# Altium integrated library Holtek Semiconductor 8-Bit OTP MCU.IntLib: 195 symbols (part 3 of 7)
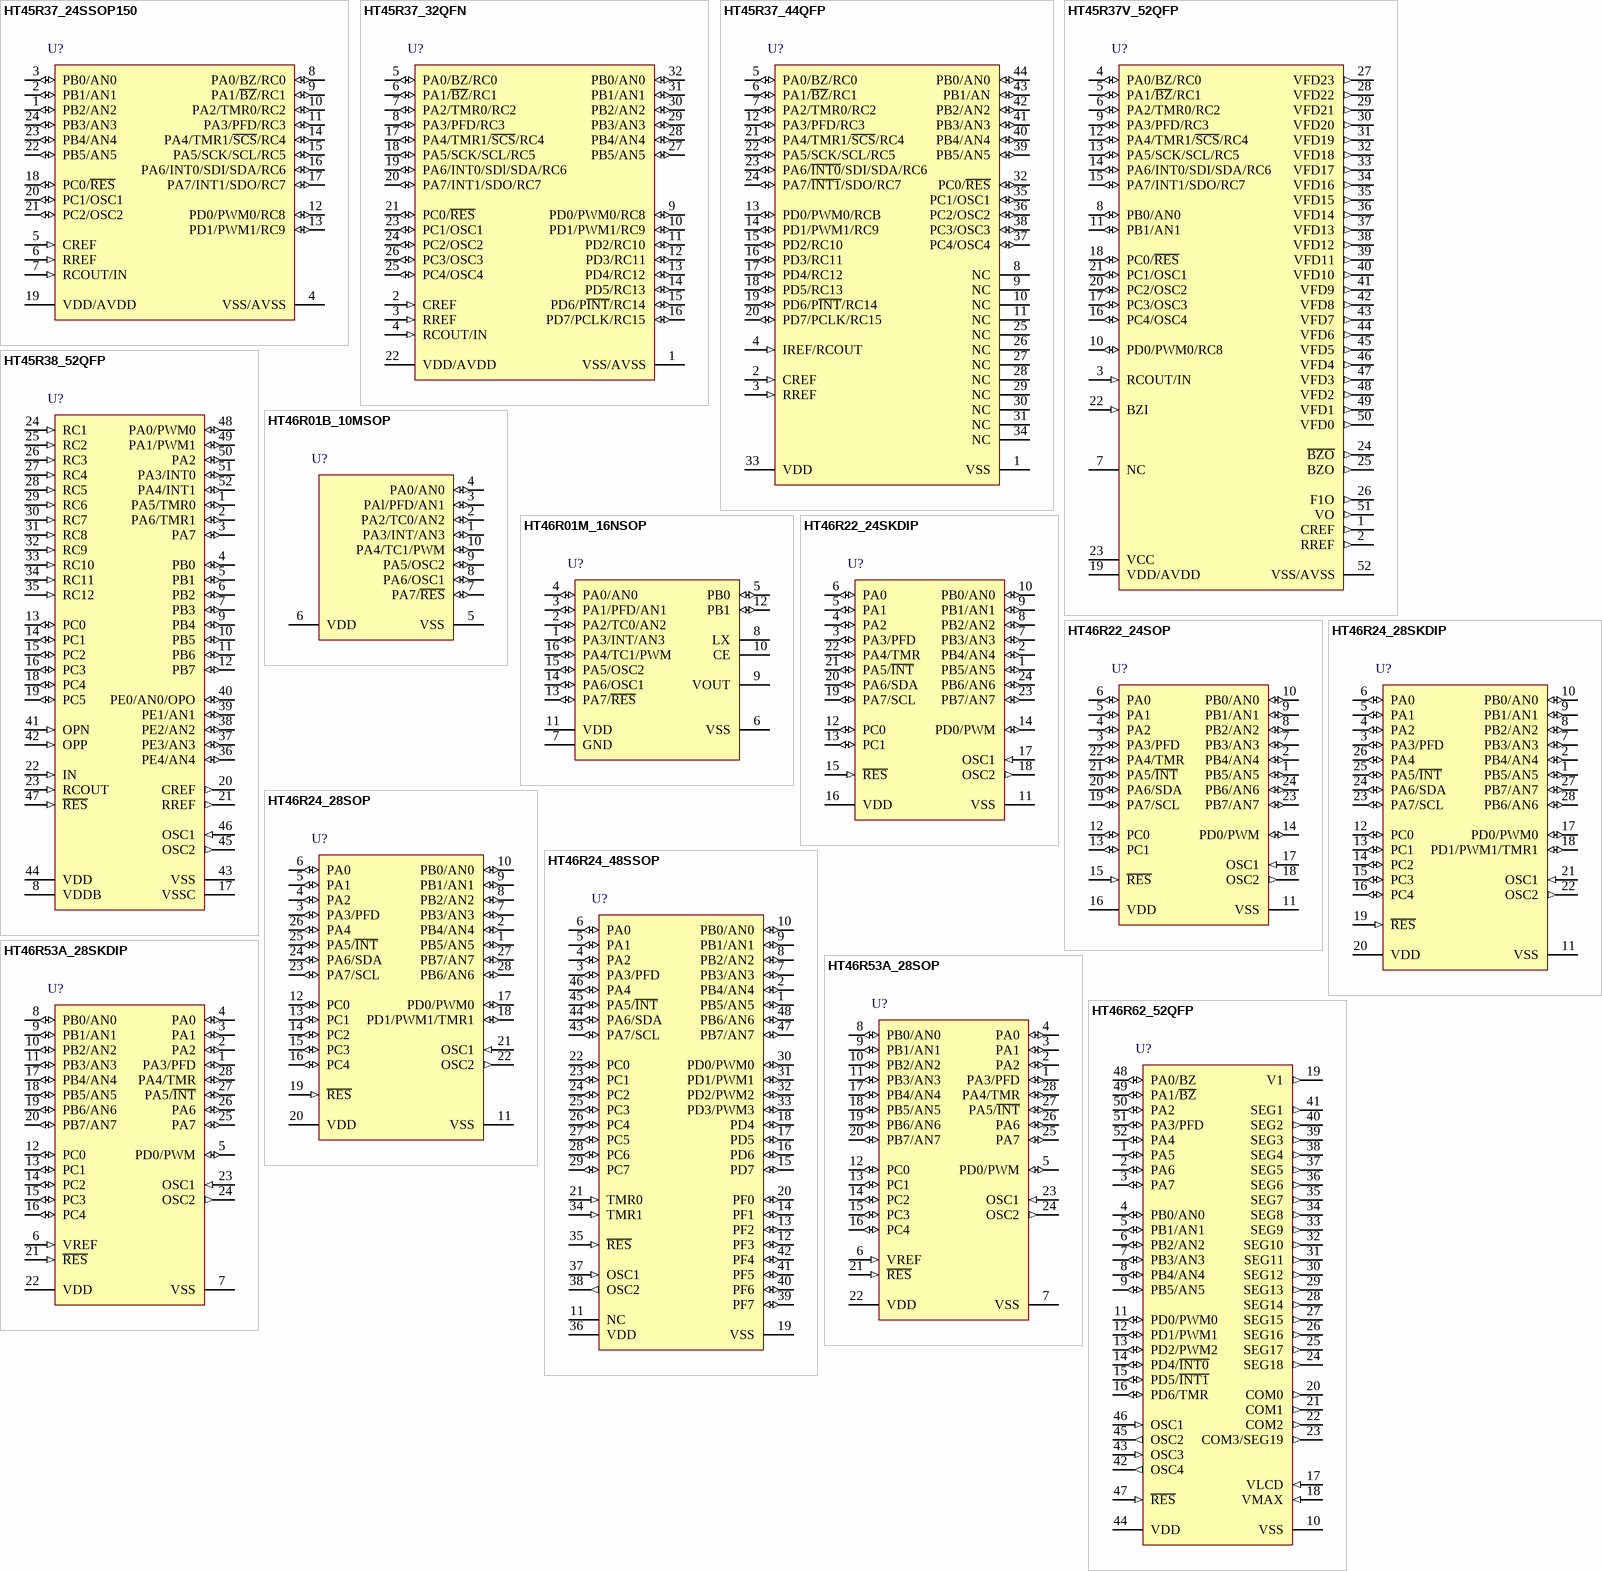
[diagram p14: symbols HT45R37_24SSOP150 to HT46R62_52QFP]

## HT46R24_28SKDIP
designator U?
General Purpose MCU, A/D Type MCU with I2C Interface, 2.2V-5.5V, 400kHz-8MHz, 8Kx16 Program Memory, 384x8 Data Memory, 40 I/O, 2 x 16-bit Timer, 8-bitx4 PWM, 28-pin SKDIP; I/O: 40; DatasheetVersion: rev2.01, Jan-2009; PackageVersion: 25/05/2010; PackageReference: 28SKDIP; PackageDescription: 28-Pin, Skinny Dual In-line Package, 300mil Width, Pitch 2.54 mm; Series: A/D Type MCU with I2C Interface; Operating Voltage: 2.2V-5.5V; Program Memory: 8Kx16; Data Memory: 384x8; ComponentLink1Description: Manufacturer URL; ComponentLink1URL: http://www.holtek.com/; ComponentLink2Description: Datasheet; ComponentLink2URL: http://www.holtek.com.cn/pdf/uc/sim46x24v201.pdf; ComponentLink3Description: Package Specification; ComponentLink3URL: http://www.holtek.com/english/literature/package.pdf
footprint 28SKDIP (DIP, 28-Leads, Row Spacing 7.62mm, Pitch 2.54mm, Body 35.2x7.3mm)
pins: 1 PB5/AN5 (io), 2 PB4/AN4 (io), 3 PA3/PFD (io), 4 PA2 (io), 5 PA1 (io), 6 PA0 (io), 7 PB3/AN3 (io), 8 PB2/AN2 (io), 9 PB1/AN1 (io), 10 PB0/AN0 (io), 11 VSS (power), 12 PC0 (io), 13 PC1 (io), 14 PC2 (io), 15 PC3 (io), 16 PC4 (io), 17 PD0/PWM0 (io), 18 PD1/PWM1/TMR1 (io), 19 ~{RES} (in), 20 VDD (power), 21 OSC1 (in), 22 OSC2 (out), 23 PA7/SCL (io), 24 PA6/SDA (io), 25 PA5/~{INT} (io), 26 PA4 (io), 27 PB7/AN7 (io), 28 PB6/AN6 (io)

## HT46R24_28SOP
designator U?
General Purpose MCU, A/D Type MCU with I2C Interface, 2.2V-5.5V, 400kHz-8MHz, 8Kx16 Program Memory, 384x8 Data Memory, 40 I/O, 2 x 16-bit Timer, 8-bitx4 PWM, 28-pin SOP; I/O: 40; DatasheetVersion: rev2.01, Jan-2009; PackageVersion: 25/05/2010; PackageReference: 28SOP; PackageDescription: 28-Pin Small Outline Package, 300mil Wide, 1.27 mm Pitch; Series: A/D Type MCU with I2C Interface; Operating Voltage: 2.2V-5.5V; Program Memory: 8Kx16; Data Memory: 384x8; Code_JEDEC: MS-013; ComponentLink1Description: Manufacturer URL; ComponentLink1URL: http://www.holtek.com/; ComponentLink2Description: Datasheet; ComponentLink2URL: http://www.holtek.com.cn/pdf/uc/sim46x24v201.pdf; ComponentLink3Description: Package Specification; ComponentLink3URL: http://www.holtek.com/english/literature/package.pdf
footprint 28SOP_N (SOIC, 28-Leads, Body 17.9x7.1mm, Pitch 1.27mm, IPC Medium Density)
footprint 28SOP_L (SOIC, 28-Leads, Body 17.9x7.1mm, Pitch 1.27mm, IPC High Density)
footprint 28SOP_M (SOIC, 28-Leads, Body 17.9x7.1mm, Pitch 1.27mm, IPC Low Density)
pins: 1 PB5/AN5 (io), 2 PB4/AN4 (io), 3 PA3/PFD (io), 4 PA2 (io), 5 PA1 (io), 6 PA0 (io), 7 PB3/AN3 (io), 8 PB2/AN2 (io), 9 PB1/AN1 (io), 10 PB0/AN0 (io), 11 VSS (power), 12 PC0 (io), 13 PC1 (io), 14 PC2 (io), 15 PC3 (io), 16 PC4 (io), 17 PD0/PWM0 (io), 18 PD1/PWM1/TMR1 (io), 19 ~{RES} (in), 20 VDD (power), 21 OSC1 (in), 22 OSC2 (out), 23 PA7/SCL (io), 24 PA6/SDA (io), 25 PA5/~{INT} (io), 26 PA4 (io), 27 PB7/AN7 (io), 28 PB6/AN6 (io)

## HT46R24_48SSOP
designator U?
General Purpose MCU, A/D Type MCU with I2C Interface, 2.2V-5.5V, 400kHz-8MHz, 8Kx16 Program Memory, 384x8 Data Memory, 40 I/O, 2 x 16-bit Timer, 8-bitx4 PWM, 48-pin SSOP; I/O: 40; DatasheetVersion: rev2.01, Jan-2009; PackageVersion: 25/05/2010; PackageReference: 48SSOP; PackageDescription: 48-Pin Shrink Small Outline Package, 300mil Width, 0.64 mm Pitch; Series: A/D Type MCU with I2C Interface; Operating Voltage: 2.2V-5.5V; Program Memory: 8Kx16; Data Memory: 384x8; Code_IPC: SOP635P1035-48; ComponentLink1Description: Manufacturer URL; ComponentLink1URL: http://www.holtek.com/; ComponentLink2Description: Datasheet; ComponentLink2URL: http://www.holtek.com.cn/pdf/uc/sim46x24v201.pdf; ComponentLink3Description: Package Specification; ComponentLink3URL: http://www.holtek.com/english/literature/package.pdf
footprint 48SSOP_N (SOP, 48-Leads, Body 15.9x7.5mm, Pitch 0.635mm, IPC Medium Density)
footprint 48SSOP_L (SOP, 48-Leads, Body 15.9x7.5mm, Pitch 0.635mm, IPC High Density)
footprint 48SSOP_M (SOP, 48-Leads, Body 15.9x7.5mm, Pitch 0.635mm, IPC Low Density)
pins: 1 PB5/AN5 (io), 2 PB4/AN4 (io), 3 PA3/PFD (io), 4 PA2 (io), 5 PA1 (io), 6 PA0 (io), 7 PB3/AN3 (io), 8 PB2/AN2 (io), 9 PB1/AN1 (io), 10 PB0/AN0 (io), 11 NC, 12 PF3 (io), 13 PF2 (io), 14 PF1 (io), 15 PD7 (io), 16 PD6 (io), 17 PD5 (io), 18 PD4 (io), 19 VSS (power), 20 PF0 (io), 21 TMR0 (in), 22 PC0 (io), 23 PC1 (io), 24 PC2 (io), 25 PC3 (io), 26 PC4 (io), 27 PC5 (io), 28 PC6 (io), 29 PC7 (io), 30 PD0/PWM0 (io), 31 PD1/PWM1 (io), 32 PD2/PWM2 (io), 33 PD3/PWM3 (io), 34 TMR1 (in), 35 ~{RES} (in), 36 VDD (power), 37 OSC1 (in), 38 OSC2 (out), 39 PF7 (io), 40 PF6 (io), 41 PF5 (io), 42 PF4 (io), 43 PA7/SCL (io), 44 PA6/SDA (io), 45 PA5/~{INT} (io), 46 PA4 (io), 47 PB7/AN7 (io), 48 PB6/AN6 (io)

## HT46R53A_28SKDIP
designator U?
General Purpose MCU, A/D Type MCU, 2.2V-5.5V, 400kHz-8MHz, 2Kx15 Program Memory, 192x8 Data Memory, 22 I/O, 1 x 8-bit Timer, 12-bitx8 A/D, 8-bitx1 PWM, 28-pin SKDIP; I/O: 22; DatasheetVersion: rev1.1, Mar-2009; PackageVersion: 25/05/2010; PackageReference: 28SKDIP; PackageDescription: 28-Pin, Skinny Dual In-line Package, 300mil Width, Pitch 2.54 mm; Series: A/D Type MCU; Operating Voltage: 2.2V-5.5V; Program Memory: 2Kx15; Data Memory: 192x8; ComponentLink1Description: Manufacturer URL; ComponentLink1URL: http://www.holtek.com/; ComponentLink2Description: Datasheet; ComponentLink2URL: http://www.holtek.com.cn/pdf/uc/sim46x53_54av110.pdf; ComponentLink3Description: Package Specification; ComponentLink3URL: http://www.holtek.com/english/literature/package.pdf
footprint 28SKDIP (DIP, 28-Leads, Row Spacing 7.62mm, Pitch 2.54mm, Body 35.2x7.3mm)
pins: 1 PA3/PFD (io), 2 PA2 (io), 3 PA1 (io), 4 PA0 (io), 5 PD0/PWM (io), 6 VREF (in), 7 VSS (power), 8 PB0/AN0 (io), 9 PB1/AN1 (io), 10 PB2/AN2 (io), 11 PB3/AN3 (io), 12 PC0 (io), 13 PC1 (io), 14 PC2 (io), 15 PC3 (io), 16 PC4 (io), 17 PB4/AN4 (io), 18 PB5/AN5 (io), 19 PB6/AN6 (io), 20 PB7/AN7 (io), 21 ~{RES} (in), 22 VDD (power), 23 OSC1 (in), 24 OSC2 (out), 25 PA7 (io), 26 PA6 (io), 27 PA5/~{INT} (io), 28 PA4/TMR (io)

## HT46R53A_28SOP
designator U?
General Purpose MCU, A/D Type MCU, 2.2V-5.5V, 400kHz-8MHz, 2Kx15 Program Memory, 192x8 Data Memory, 22 I/O, 1 x 8-bit Timer, 12-bitx8 A/D, 8-bitx1 PWM, 28-pin SOP; I/O: 22; DatasheetVersion: rev1.1, Mar-2009; PackageVersion: 25/05/2010; PackageReference: 28SOP; PackageDescription: 28-Pin Small Outline Package, 300mil Wide, 1.27 mm Pitch; Series: A/D Type MCU; Operating Voltage: 2.2V-5.5V; Program Memory: 2Kx15; Data Memory: 192x8; Code_JEDEC: MS-013; ComponentLink1Description: Manufacturer URL; ComponentLink1URL: http://www.holtek.com/; ComponentLink2Description: Datasheet; ComponentLink2URL: http://www.holtek.com.cn/pdf/uc/sim46x53_54av110.pdf; ComponentLink3Description: Package Specification; ComponentLink3URL: http://www.holtek.com/english/literature/package.pdf
footprint 28SOP_N (SOIC, 28-Leads, Body 17.9x7.1mm, Pitch 1.27mm, IPC Medium Density)
footprint 28SOP_L (SOIC, 28-Leads, Body 17.9x7.1mm, Pitch 1.27mm, IPC High Density)
footprint 28SOP_M (SOIC, 28-Leads, Body 17.9x7.1mm, Pitch 1.27mm, IPC Low Density)
pins: 1 PA3/PFD (io), 2 PA2 (io), 3 PA1 (io), 4 PA0 (io), 5 PD0/PWM (io), 6 VREF (in), 7 VSS (power), 8 PB0/AN0 (io), 9 PB1/AN1 (io), 10 PB2/AN2 (io), 11 PB3/AN3 (io), 12 PC0 (io), 13 PC1 (io), 14 PC2 (io), 15 PC3 (io), 16 PC4 (io), 17 PB4/AN4 (io), 18 PB5/AN5 (io), 19 PB6/AN6 (io), 20 PB7/AN7 (io), 21 ~{RES} (in), 22 VDD (power), 23 OSC1 (in), 24 OSC2 (out), 25 PA7 (io), 26 PA6 (io), 27 PA5/~{INT} (io), 28 PA4/TMR (io)

## HT46R62_52QFP
designator U?
Display MCU, A/D Type MCU with LCD, 2.2V-5.5V, 400kHz-8MHz or 32768Hz, 2Kx14 Program Memory, 88x8 Data Memory, 20 I/O, 1 x 8-bit Timer, 9-bitx6 A/D, 8-bitx3 PWM, 52-pin QFP; I/O: 20; DatasheetVersion: rev1.7, Feb-2006; PackageVersion: 25/05/2010; PackageReference: 52QFP; PackageDescription: 52-Pin Quad Flat Pack, 14 x 14 mm Body, 1 mm Pitch; Series: A/D Type MCU with LCD; Operating Voltage: 2.2V-5.5V; Program Memory: 2Kx14; Data Memory: 88x8; ComponentLink1Description: Manufacturer URL; ComponentLink1URL: http://www.holtek.com/; ComponentLink2Description: Datasheet; ComponentLink2URL: http://www.holtek.com.cn/pdf/uc/sim46x62v170.pdf; ComponentLink3Description: Package Specification; ComponentLink3URL: http://www.holtek.com/english/literature/package.pdf
footprint 52QFP_N (QFP, 52-Leads, Body 14x14mm, Pitch 1mm, IPC Medium Density)
footprint 52QFP_L (QFP, 52-Leads, Body 14x14mm, Pitch 1mm, IPC High Density)
footprint 52QFP_M (QFP, 52-Leads, Body 14x14mm, Pitch 1mm, IPC Low Density)
pins: 1 PA5 (io), 2 PA6 (io), 3 PA7 (io), 4 PB0/AN0 (io), 5 PB1/AN1 (io), 6 PB2/AN2 (io), 7 PB3/AN3 (io), 8 PB4/AN4 (io), 9 PB5/AN5 (io), 10 VSS (power), 11 PD0/PWM0 (io), 12 PD1/PWM1 (io), 13 PD2/PWM2 (io), 14 PD4/~{INT0} (io), 15 PD5/~{INT1} (io), 16 PD6/TMR (io), 17 VLCD (in), 18 VMAX (in), 19 V1 (out), 20 COM0 (out), 21 COM1 (out), 22 COM2 (out), 23 COM3/SEG19 (out), 24 SEG18 (out), 25 SEG17 (out), 26 SEG16 (out), 27 SEG15 (out), 28 SEG14 (out), 29 SEG13 (out), 30 SEG12 (out), 31 SEG11 (out), 32 SEG10 (out), 33 SEG9 (out), 34 SEG8 (out), 35 SEG7 (out), 36 SEG6 (out), 37 SEG5 (out), 38 SEG4 (out), 39 SEG3 (out), 40 SEG2 (out), 41 SEG1 (out), 42 OSC4 (out), 43 OSC3 (in), 44 VDD (power), 45 OSC2 (out), 46 OSC1 (in), 47 ~{RES} (in), 48 PA0/BZ (io), 49 PA1/~{BZ} (io), 50 PA2 (io), 51 PA3/PFD (io), 52 PA4 (io)

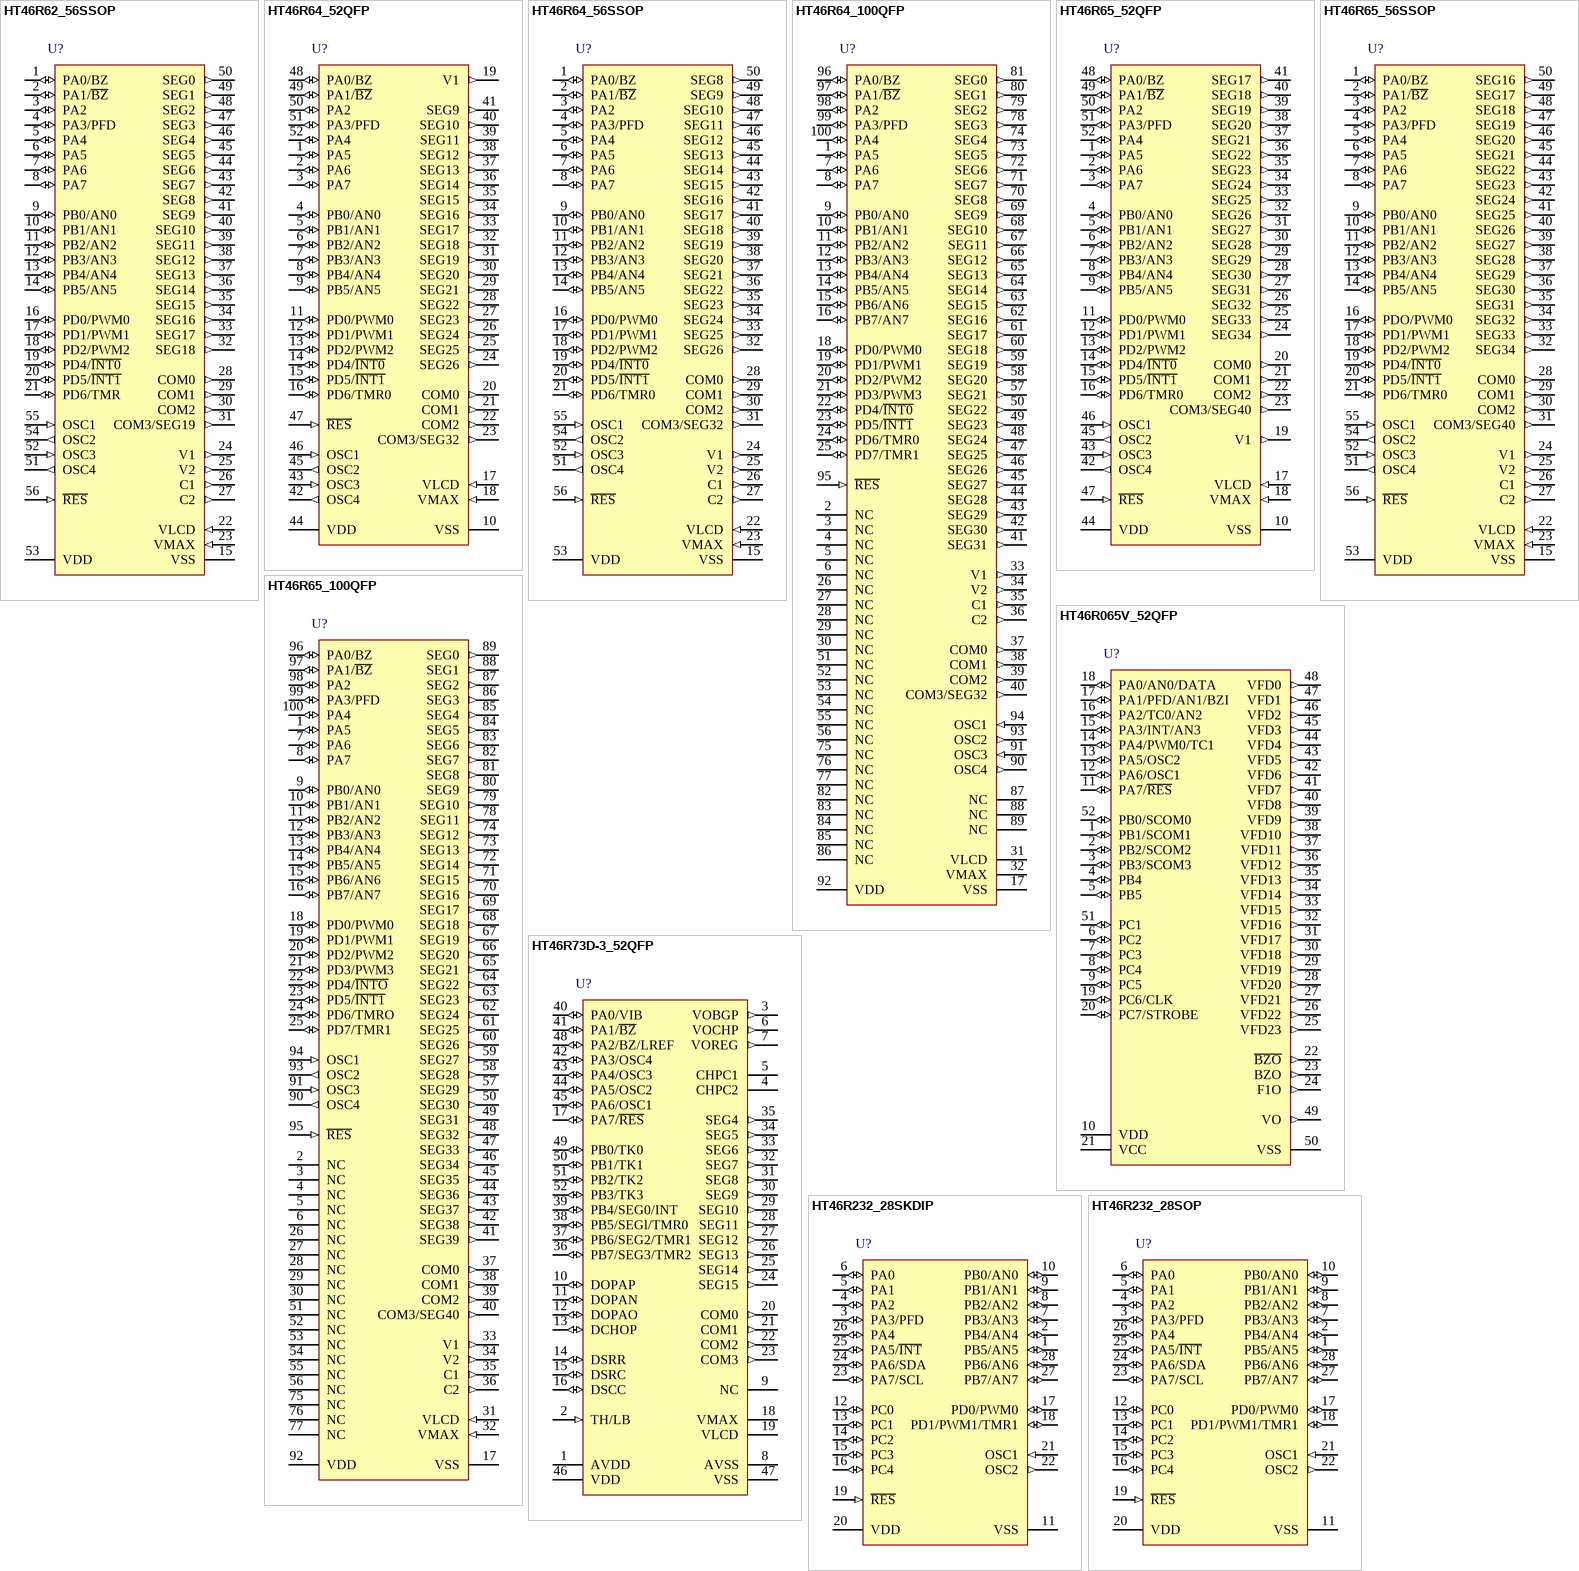
[diagram p5: symbols HT46R62_56SSOP to HT46R232_28SOP]

## HT46R62_56SSOP
designator U?
Display MCU, A/D Type MCU with LCD, 2.2V-5.5V, 400kHz-8MHz or 32768Hz, 2Kx14 Program Memory, 88x8 Data Memory, 20 I/O, 1 x 8-bit Timer, 9-bitx6 A/D, 8-bitx3 PWM, 56-pin SSOP; I/O: 20; DatasheetVersion: rev1.7, Feb-2006; PackageVersion: 25/05/2010; PackageReference: 56SSOP; PackageDescription: 56-Pin Shrink Small Outline Package, 300mil Width, 0.64 mm Pitch; Series: A/D Type MCU with LCD; Operating Voltage: 2.2V-5.5V; Program Memory: 2Kx14; Data Memory: 88x8; Code_IPC: SOP635P1035-56; ComponentLink1Description: Manufacturer URL; ComponentLink1URL: http://www.holtek.com/; ComponentLink2Description: Datasheet; ComponentLink2URL: http://www.holtek.com.cn/pdf/uc/sim46x62v170.pdf; ComponentLink3Description: Package Specification; ComponentLink3URL: http://www.holtek.com/english/literature/package.pdf
footprint 56SSOP_N (SOP, 56-Leads, Body 18.4x7.5mm, Pitch 0.635mm, IPC Medium Density)
footprint 56SSOP_L (SOP, 56-Leads, Body 18.4x7.5mm, Pitch 0.635mm, IPC High Density)
footprint 56SSOP_M (SOP, 56-Leads, Body 18.4x7.5mm, Pitch 0.635mm, IPC Low Density)
pins: 1 PA0/BZ (io), 2 PA1/~{BZ} (io), 3 PA2 (io), 4 PA3/PFD (io), 5 PA4 (io), 6 PA5 (io), 7 PA6 (io), 8 PA7 (io), 9 PB0/AN0 (io), 10 PB1/AN1 (io), 11 PB2/AN2 (io), 12 PB3/AN3 (io), 13 PB4/AN4 (io), 14 PB5/AN5 (io), 15 VSS (power), 16 PD0/PWM0 (io), 17 PD1/PWM1 (io), 18 PD2/PWM2 (io), 19 PD4/~{INT0} (io), 20 PD5/~{INT1} (io), 21 PD6/TMR (io), 22 VLCD (in), 23 VMAX (in), 24 V1 (out), 25 V2 (out), 26 C1 (out), 27 C2 (out), 28 COM0 (out), 29 COM1 (out), 30 COM2 (out), 31 COM3/SEG19 (out), 32 SEG18 (out), 33 SEG17 (out), 34 SEG16 (out), 35 SEG15 (out), 36 SEG14 (out), 37 SEG13 (out), 38 SEG12 (out), 39 SEG11 (out), 40 SEG10 (out), 41 SEG9 (out), 42 SEG8 (out), 43 SEG7 (out), 44 SEG6 (out), 45 SEG5 (out), 46 SEG4 (out), 47 SEG3 (out), 48 SEG2 (out), 49 SEG1 (out), 50 SEG0 (out), 51 OSC4 (out), 52 OSC3 (in), 53 VDD (power), 54 OSC2 (out), 55 OSC1 (in), 56 ~{RES} (in)

## HT46R64_52QFP
designator U?
Display MCU, A/D Type MCU with LCD, 2.2V-5.5V, 400kHz-8MHz or 32768Hz, 4Kx15 Program Memory, 192x8 Data Memory, 24 I/O, 1 x 8-bit Timer, 1 x 16-bit Timer, 10-bitx8 A/D, 8-bitx4 PWM, 52-pin QFP; I/O: 24; DatasheetVersion: rev1.8, Feb-2006; PackageVersion: 25/05/2010; PackageReference: 52QFP; PackageDescription: 52-Pin Quad Flat Pack, 14 x 14 mm Body, 1 mm Pitch; Series: A/D Type MCU with LCD; Operating Voltage: 2.2V-5.5V; Program Memory: 4Kx15; Data Memory: 192x8; ComponentLink1Description: Manufacturer URL; ComponentLink1URL: http://www.holtek.com/; ComponentLink2Description: Datasheet; ComponentLink2URL: http://www.holtek.com.cn/pdf/uc/sim46x64v180.pdf; ComponentLink3Description: Package Specification; ComponentLink3URL: http://www.holtek.com/english/literature/package.pdf
footprint 52QFP_N (QFP, 52-Leads, Body 14x14mm, Pitch 1mm, IPC Medium Density)
footprint 52QFP_L (QFP, 52-Leads, Body 14x14mm, Pitch 1mm, IPC High Density)
footprint 52QFP_M (QFP, 52-Leads, Body 14x14mm, Pitch 1mm, IPC Low Density)
pins: 1 PA5 (io), 2 PA6 (io), 3 PA7 (io), 4 PB0/AN0 (io), 5 PB1/AN1 (io), 6 PB2/AN2 (io), 7 PB3/AN3 (io), 8 PB4/AN4 (io), 9 PB5/AN5 (io), 10 VSS (power), 11 PD0/PWM0 (io), 12 PD1/PWM1 (io), 13 PD2/PWM2 (io), 14 PD4/~{INT0} (io), 15 PD5/~{INT1} (io), 16 PD6/TMR0 (io), 17 VLCD (in), 18 VMAX (in), 19 V1 (out), 20 COM0 (out), 21 COM1 (out), 22 COM2 (out), 23 COM3/SEG32 (out), 24 SEG26 (out), 25 SEG25 (out), 26 SEG24 (out), 27 SEG23 (out), 28 SEG22 (out), 29 SEG21 (out), 30 SEG20 (out), 31 SEG19 (out), 32 SEG18 (out), 33 SEG17 (out), 34 SEG16 (out), 35 SEG15 (out), 36 SEG14 (out), 37 SEG13 (out), 38 SEG12 (out), 39 SEG11 (out), 40 SEG10 (out), 41 SEG9 (out), 42 OSC4 (out), 43 OSC3 (in), 44 VDD (power), 45 OSC2 (out), 46 OSC1 (in), 47 ~{RES} (in), 48 PA0/BZ (io), 49 PA1/~{BZ} (io), 50 PA2 (io), 51 PA3/PFD (io), 52 PA4 (io)

## HT46R64_56SSOP
designator U?
Display MCU, A/D Type MCU with LCD, 2.2V-5.5V, 400kHz-8MHz or 32768Hz, 4Kx15 Program Memory, 192x8 Data Memory, 24 I/O, 1 x 8-bit Timer, 1 x 16-bit Timer, 10-bitx8 A/D, 8-bitx4 PWM, 56-pin SSOP; I/O: 24; DatasheetVersion: rev1.8, Feb-2006; PackageVersion: 25/05/2010; PackageReference: 56SSOP; PackageDescription: 56-Pin Shrink Small Outline Package, 300mil Width, 0.64 mm Pitch; Series: A/D Type MCU with LCD; Operating Voltage: 2.2V-5.5V; Program Memory: 4Kx15; Data Memory: 192x8; Code_IPC: SOP635P1035-56; ComponentLink1Description: Manufacturer URL; ComponentLink1URL: http://www.holtek.com/; ComponentLink2Description: Datasheet; ComponentLink2URL: http://www.holtek.com.cn/pdf/uc/sim46x64v180.pdf; ComponentLink3Description: Package Specification; ComponentLink3URL: http://www.holtek.com/english/literature/package.pdf
footprint 56SSOP_N (SOP, 56-Leads, Body 18.4x7.5mm, Pitch 0.635mm, IPC Medium Density)
footprint 56SSOP_L (SOP, 56-Leads, Body 18.4x7.5mm, Pitch 0.635mm, IPC High Density)
footprint 56SSOP_M (SOP, 56-Leads, Body 18.4x7.5mm, Pitch 0.635mm, IPC Low Density)
pins: 1 PA0/BZ (io), 2 PA1/~{BZ} (io), 3 PA2 (io), 4 PA3/PFD (io), 5 PA4 (io), 6 PA5 (io), 7 PA6 (io), 8 PA7 (io), 9 PB0/AN0 (io), 10 PB1/AN1 (io), 11 PB2/AN2 (io), 12 PB3/AN3 (io), 13 PB4/AN4 (io), 14 PB5/AN5 (io), 15 VSS (power), 16 PD0/PWM0 (io), 17 PD1/PWM1 (io), 18 PD2/PWM2 (io), 19 PD4/~{INT0} (io), 20 PD5/~{INT1} (io), 21 PD6/TMR0 (io), 22 VLCD (in), 23 VMAX (in), 24 V1 (out), 25 V2 (out), 26 C1 (out), 27 C2 (out), 28 COM0 (out), 29 COM1 (out), 30 COM2 (out), 31 COM3/SEG32 (out), 32 SEG26 (out), 33 SEG25 (out), 34 SEG24 (out), 35 SEG23 (out), 36 SEG22 (out), 37 SEG21 (out), 38 SEG20 (out), 39 SEG19 (out), 40 SEG18 (out), 41 SEG17 (out), 42 SEG16 (out), 43 SEG15 (out), 44 SEG14 (out), 45 SEG13 (out), 46 SEG12 (out), 47 SEG11 (out), 48 SEG10 (out), 49 SEG9 (out), 50 SEG8 (out), 51 OSC4 (out), 52 OSC3 (in), 53 VDD (power), 54 OSC2 (out), 55 OSC1 (in), 56 ~{RES} (in)

## HT46R64_100QFP
designator U?
Display MCU, A/D Type MCU with LCD, 2.2V-5.5V, 400kHz-8MHz or 32768Hz, 4Kx15 Program Memory, 192x8 Data Memory, 24 I/O, 1 x 8-bit Timer, 1 x 16-bit Timer, 10-bitx8 A/D, 8-bitx4 PWM, 100-pin QFP; I/O: 24; DatasheetVersion: rev1.8, Feb-2006; PackageVersion: 25/05/2010; PackageReference: 100QFP; PackageDescription: 100-Pin Quad Flat Pack, 14 x 20 mm Body, 0.65 mm Pitch; Series: A/D Type MCU with LCD; Operating Voltage: 2.2V-5.5V; Program Memory: 4Kx15; Data Memory: 192x8; ComponentLink1Description: Manufacturer URL; ComponentLink1URL: http://www.holtek.com/; ComponentLink2Description: Datasheet; ComponentLink2URL: http://www.holtek.com.cn/pdf/uc/sim46x64v180.pdf; ComponentLink3Description: Package Specification; ComponentLink3URL: http://www.holtek.com/english/literature/package.pdf
footprint 100QFP_N (QFP, 100-Leads, Body 20x14mm, Pitch 0.65mm, IPC Medium Density)
footprint 100QFP_L (QFP, 100-Leads, Body 20x14mm, Pitch 0.65mm, IPC High Density)
footprint 100QFP_M (QFP, 100-Leads, Body 20x14mm, Pitch 0.65mm, IPC Low Density)
pins: 1 PA5 (io), 2 NC, 3 NC, 4 NC, 5 NC, 6 NC, 7 PA6 (io), 8 PA7 (io), 9 PB0/AN0 (io), 10 PB1/AN1 (io), 11 PB2/AN2 (io), 12 PB3/AN3 (io), 13 PB4/AN4 (io), 14 PB5/AN5 (io), 15 PB6/AN6 (io), 16 PB7/AN7 (io), 17 VSS (power), 18 PD0/PWM0 (io), 19 PD1/PWM1 (io), 20 PD2/PWM2 (io), 21 PD3/PWM3 (io), 22 PD4/~{INT0} (io), 23 PD5/~{INT1} (io), 24 PD6/TMR0 (io), 25 PD7/TMR1 (io), 26 NC, 27 NC, 28 NC, 29 NC, 30 NC, 31 VLCD, 32 VMAX, 33 V1 (out), 34 V2 (out), 35 C1 (out), 36 C2 (out), 37 COM0 (out), 38 COM1 (out), 39 COM2 (out), 40 COM3/SEG32 (out), 41 SEG31 (out), 42 SEG30 (out), 43 SEG29 (out), 44 SEG28 (out), 45 SEG27 (out), 46 SEG26 (out), 47 SEG25 (out), 48 SEG24 (out), 49 SEG23 (out), 50 SEG22 (out), 51 NC, 52 NC, 53 NC, 54 NC, 55 NC, 56 NC, 57 SEG21 (out), 58 SEG20 (out), 59 SEG19 (out), 60 SEG18 (out), 61 SEG17 (out), 62 SEG16 (out), 63 SEG15 (out), 64 SEG14 (out), 65 SEG13 (out), 66 SEG12 (out), 67 SEG11 (out), 68 SEG10 (out), 69 SEG9 (out), 70 SEG8 (out), 71 SEG7 (out), 72 SEG6 (out), 73 SEG5 (out), 74 SEG4 (out), 75 NC, 76 NC, 77 NC, 78 SEG3 (out), 79 SEG2 (out), 80 SEG1 (out), 81 SEG0 (out), 82 NC, 83 NC, 84 NC, 85 NC, 86 NC, 87 NC, 88 NC, 89 NC, 90 OSC4 (out), 91 OSC3 (in), 92 VDD (power), 93 OSC2 (out), 94 OSC1 (in), 95 ~{RES} (in), 96 PA0/BZ (io), 97 PA1/~{BZ} (io), 98 PA2 (io), 99 PA3/PFD (io), 100 PA4 (io)

## HT46R65_52QFP
designator U?
Display MCU, A/D Type MCU with LCD, 2.2V-5.5V, 400kHz-8MHz or 32768Hz, 8Kx16 Program Memory, 384x8 Data Memory, 24 I/O,  x 8-bit Timer, 2 x 16-bit Timer, 10-bitx8 A/D, 8-bitx4 PWM, 52-pin QFP; I/O: 24; DatasheetVersion: rev1.9, Feb-2006; PackageVersion: 25/05/2010; PackageReference: 52QFP; PackageDescription: 52-Pin Quad Flat Pack, 14 x 14 mm Body, 1 mm Pitch; Series: A/D Type MCU with LCD; Operating Voltage: 2.2V-5.5V; Program Memory: 8Kx16; Data Memory: 384x8; ComponentLink1Description: Manufacturer URL; ComponentLink1URL: http://www.holtek.com/; ComponentLink2Description: Datasheet; ComponentLink2URL: http://www.holtek.com.cn/pdf/uc/sim46x65v190.pdf; ComponentLink3Description: Package Specification; ComponentLink3URL: http://www.holtek.com/english/literature/package.pdf
footprint 52QFP_N (QFP, 52-Leads, Body 14x14mm, Pitch 1mm, IPC Medium Density)
footprint 52QFP_L (QFP, 52-Leads, Body 14x14mm, Pitch 1mm, IPC High Density)
footprint 52QFP_M (QFP, 52-Leads, Body 14x14mm, Pitch 1mm, IPC Low Density)
pins: 1 PA5 (io), 2 PA6 (io), 3 PA7 (io), 4 PB0/AN0 (io), 5 PB1/AN1 (io), 6 PB2/AN2 (io), 7 PB3/AN3 (io), 8 PB4/AN4 (io), 9 PB5/AN5 (io), 10 VSS (power), 11 PD0/PWM0 (io), 12 PD1/PWM1 (io), 13 PD2/PWM2 (io), 14 PD4/~{INT0} (io), 15 PD5/~{INT1} (io), 16 PD6/TMR0 (io), 17 VLCD (in), 18 VMAX (in), 19 V1 (out), 20 COM0 (out), 21 COM1 (out), 22 COM2 (out), 23 COM3/SEG40 (out), 24 SEG34 (out), 25 SEG33 (out), 26 SEG32 (out), 27 SEG31 (out), 28 SEG30 (out), 29 SEG29 (out), 30 SEG28 (out), 31 SEG27 (out), 32 SEG26 (out), 33 SEG25 (out), 34 SEG24 (out), 35 SEG23 (out), 36 SEG22 (out), 37 SEG21 (out), 38 SEG20 (out), 39 SEG19 (out), 40 SEG18 (out), 41 SEG17 (out), 42 OSC4 (out), 43 OSC3 (in), 44 VDD (power), 45 OSC2 (out), 46 OSC1 (in), 47 ~{RES} (in), 48 PA0/BZ (io), 49 PA1/~{BZ} (io), 50 PA2 (io), 51 PA3/PFD (io), 52 PA4 (io)

## HT46R65_56SSOP
designator U?
Display MCU, A/D Type MCU with LCD, 2.2V-5.5V, 400kHz-8MHz or 32768Hz, 8Kx16 Program Memory, 384x8 Data Memory, 24 I/O,  x 8-bit Timer, 2 x 16-bit Timer, 10-bitx8 A/D, 8-bitx4 PWM, 56-pin SSOP; I/O: 24; DatasheetVersion: rev1.9, Feb-2006; PackageVersion: 25/05/2010; PackageReference: 56SSOP; PackageDescription: 56-Pin Shrink Small Outline Package, 300mil Width, 0.64 mm Pitch; Series: A/D Type MCU with LCD; Operating Voltage: 2.2V-5.5V; Program Memory: 8Kx16; Data Memory: 384x8; Code_IPC: SOP635P1035-56; ComponentLink1Description: Manufacturer URL; ComponentLink1URL: http://www.holtek.com/; ComponentLink2Description: Datasheet; ComponentLink2URL: http://www.holtek.com.cn/pdf/uc/sim46x65v190.pdf; ComponentLink3Description: Package Specification; ComponentLink3URL: http://www.holtek.com/english/literature/package.pdf
footprint 56SSOP_N (SOP, 56-Leads, Body 18.4x7.5mm, Pitch 0.635mm, IPC Medium Density)
footprint 56SSOP_L (SOP, 56-Leads, Body 18.4x7.5mm, Pitch 0.635mm, IPC High Density)
footprint 56SSOP_M (SOP, 56-Leads, Body 18.4x7.5mm, Pitch 0.635mm, IPC Low Density)
pins: 1 PA0/BZ (io), 2 PA1/~{BZ} (io), 3 PA2 (io), 4 PA3/PFD (io), 5 PA4 (io), 6 PA5 (io), 7 PA6 (io), 8 PA7 (io), 9 PB0/AN0 (io), 10 PB1/AN1 (io), 11 PB2/AN2 (io), 12 PB3/AN3 (io), 13 PB4/AN4 (io), 14 PB5/AN5 (io), 15 VSS (power), 16 PDO/PWM0 (io), 17 PD1/PWM1 (io), 18 PD2/PWM2 (io), 19 PD4/~{INT0} (io), 20 PD5/~{INT1} (io), 21 PD6/TMR0 (io), 22 VLCD (in), 23 VMAX (in), 24 V1 (out), 25 V2 (out), 26 C1 (out), 27 C2 (out), 28 COM0 (out), 29 COM1 (out), 30 COM2 (out), 31 COM3/SEG40 (out), 32 SEG34 (out), 33 SEG33 (out), 34 SEG32 (out), 35 SEG31 (out), 36 SEG30 (out), 37 SEG29 (out), 38 SEG28 (out), 39 SEG27 (out), 40 SEG26 (out), 41 SEG25 (out), 42 SEG24 (out), 43 SEG23 (out), 44 SEG22 (out), 45 SEG21 (out), 46 SEG20 (out), 47 SEG19 (out), 48 SEG18 (out), 49 SEG17 (out), 50 SEG16 (out), 51 OSC4 (out), 52 OSC3 (in), 53 VDD (power), 54 OSC2 (out), 55 OSC1 (in), 56 ~{RES} (in)

## HT46R65_100QFP
designator U?
Display MCU, A/D Type MCU with LCD, 2.2V-5.5V, 400kHz-8MHz or 32768Hz, 8Kx16 Program Memory, 384x8 Data Memory, 24 I/O,  x 8-bit Timer, 2 x 16-bit Timer, 10-bitx8 A/D, 8-bitx4 PWM, 100-pin QFP; I/O: 24; DatasheetVersion: rev1.9, Feb-2006; PackageVersion: 25/05/2010; PackageReference: 100QFP; PackageDescription: 100-Pin Quad Flat Pack, 14 x 20 mm Body, 0.65 mm Pitch; Series: A/D Type MCU with LCD; Operating Voltage: 2.2V-5.5V; Program Memory: 8Kx16; Data Memory: 384x8; ComponentLink1Description: Manufacturer URL; ComponentLink1URL: http://www.holtek.com/; ComponentLink2Description: Datasheet; ComponentLink2URL: http://www.holtek.com.cn/pdf/uc/sim46x65v190.pdf; ComponentLink3Description: Package Specification; ComponentLink3URL: http://www.holtek.com/english/literature/package.pdf
footprint 100QFP_N (QFP, 100-Leads, Body 20x14mm, Pitch 0.65mm, IPC Medium Density)
footprint 100QFP_L (QFP, 100-Leads, Body 20x14mm, Pitch 0.65mm, IPC High Density)
footprint 100QFP_M (QFP, 100-Leads, Body 20x14mm, Pitch 0.65mm, IPC Low Density)
pins: 1 PA5 (io), 2 NC, 3 NC, 4 NC, 5 NC, 6 NC, 7 PA6 (io), 8 PA7 (io), 9 PB0/AN0 (io), 10 PB1/AN1 (io), 11 PB2/AN2 (io), 12 PB3/AN3 (io), 13 PB4/AN4 (io), 14 PB5/AN5 (io), 15 PB6/AN6 (io), 16 PB7/AN7 (io), 17 VSS (power), 18 PD0/PWM0 (io), 19 PD1/PWM1 (io), 20 PD2/PWM2 (io), 21 PD3/PWM3 (io), 22 PD4/~{INTO} (io), 23 PD5/~{INT1} (io), 24 PD6/TMRO (io), 25 PD7/TMR1 (io), 26 NC, 27 NC, 28 NC, 29 NC, 30 NC, 31 VLCD (in), 32 VMAX (in), 33 V1 (out), 34 V2 (out), 35 C1 (out), 36 C2 (out), 37 COM0 (out), 38 COM1 (out), 39 COM2 (out), 40 COM3/SEG40 (out), 41 SEG39 (out), 42 SEG38 (out), 43 SEG37 (out), 44 SEG36 (out), 45 SEG35 (out), 46 SEG34 (out), 47 SEG33 (out), 48 SEG32 (out), 49 SEG31 (out), 50 SEG30 (out), 51 NC, 52 NC, 53 NC, 54 NC, 55 NC, 56 NC, 57 SEG29 (out), 58 SEG28 (out), 59 SEG27 (out), 60 SEG26 (out), 61 SEG25 (out), 62 SEG24 (out), 63 SEG23 (out), 64 SEG22 (out), 65 SEG21 (out), 66 SEG20 (out), 67 SEG19 (out), 68 SEG18 (out), 69 SEG17 (out), 70 SEG16 (out), 71 SEG15 (out), 72 SEG14 (out), 73 SEG13 (out), 74 SEG12 (out), 75 NC, 76 NC, 77 NC, 78 SEG11 (out), 79 SEG10 (out), 80 SEG9 (out), 81 SEG8 (out), 82 SEG7 (out), 83 SEG6 (out), 84 SEG5 (out), 85 SEG4 (out), 86 SEG3 (out), 87 SEG2 (out), 88 SEG1 (out), 89 SEG0 (out), 90 OSC4 (out), 91 OSC3 (in), 92 VDD (power), 93 OSC2 (out), 94 OSC1 (in), 95 ~{RES} (in), 96 PA0/BZ (io), 97 PA1/~{BZ} (io), 98 PA2 (io), 99 PA3/PFD (io), 100 PA4 (io)

## HT46R065V_52QFP
designator U?
Display MCU, 24V VFD MCU, 12V-24V, 400kHz-12MHz, 2Kx15 Program Memory, 96x8 Data Memory, 17 I/O, 2 x 8-bit Timer, 2-bitx4 A/D, 8-bitx1 PWM, 52-pin QFP; I/O: 17; DatasheetVersion: rev1.0, Oct-2009; PackageVersion: 25/05/2010; PackageReference: 52QFP; PackageDescription: 52-Pin Quad Flat Pack, 14 x 14 mm Body, 1 mm Pitch; Series: 24V VFD MCU; Operating Voltage: 12V-24V; Program Memory: 2Kx15; Data Memory: 96x8; ComponentLink1Description: Manufacturer URL; ComponentLink1URL: http://www.holtek.com/; ComponentLink2Description: Datasheet; ComponentLink2URL: http://www.holtek.com.cn/pdf/uc/sim46r065vv100.pdf; ComponentLink3Description: Package Specification; ComponentLink3URL: http://www.holtek.com/english/literature/package.pdf
footprint 52QFP_N (QFP, 52-Leads, Body 14x14mm, Pitch 1mm, IPC Medium Density)
footprint 52QFP_L (QFP, 52-Leads, Body 14x14mm, Pitch 1mm, IPC High Density)
footprint 52QFP_M (QFP, 52-Leads, Body 14x14mm, Pitch 1mm, IPC Low Density)
pins: 1 PB1/SCOM1 (io), 2 PB2/SCOM2 (io), 3 PB3/SCOM3 (io), 4 PB4 (io), 5 PB5 (io), 6 PC2 (io), 7 PC3 (io), 8 PC4 (io), 9 PC5 (io), 10 VDD (power), 11 PA7/~{RES} (io), 12 PA6/OSC1 (io), 13 PA5/OSC2 (io), 14 PA4/PWM0/TC1 (io), 15 PA3/INT/AN3 (io), 16 PA2/TC0/AN2 (io), 17 PA1/PFD/AN1/BZI (io), 18 PA0/AN0/DATA (io), 19 PC6/CLK (io), 20 PC7/STROBE (io), 21 VCC (power), 22 ~{BZO} (out), 23 BZO (out), 24 F1O (out), 25 VFD23 (out), 26 VFD22 (out), 27 VFD21 (out), 28 VFD20 (out), 29 VFD19 (out), 30 VFD18 (out), 31 VFD17 (out), 32 VFD16 (out), 33 VFD15 (out), 34 VFD14 (out), 35 VFD13 (out), 36 VFD12 (out), 37 VFD11 (out), 38 VFD10 (out), 39 VFD9 (out), 40 VFD8 (out), 41 VFD7 (out), 42 VFD6 (out), 43 VFD5 (out), 44 VFD4 (out), 45 VFD3 (out), 46 VFD2 (out), 47 VFD1 (out), 48 VFD0 (out), 49 VO (out), 50 VSS (power), 51 PC1 (io), 52 PB0/SCOM0 (io)

## HT46R73D-3_52QFP
designator U?
General Purpose MCU, Dual Slope A/D Type MCU with Touch Key, 2.2V-5.5V, 400kHz-8MHz, 4Kx15 Program Memory, 128x8 Data Memory, 16 I/O, 1 x 8-bit Timer, 2 x 16-bit Timer, 52-pin QFP; I/O: 16; DatasheetVersion: rev1.1, Apr-2010; PackageVersion: 25/05/2010; PackageReference: 52QFP; PackageDescription: 52-Pin Quad Flat Pack, 14 x 14 mm Body, 1 mm Pitch; Series: Dual Slope A/D Type MCU with Touch Key; Operating Voltage: 2.2V-5.5V; Program Memory: 4Kx15; Data Memory: 128x8; ComponentLink1Description: Manufacturer URL; ComponentLink1URL: http://www.holtek.com/; ComponentLink2Description: Datasheet; ComponentLink2URL: http://www.holtek.com.cn/pdf/uc/46r73d_3v110.pdf; ComponentLink3Description: Package Specification; ComponentLink3URL: http://www.holtek.com/english/literature/package.pdf
footprint 52QFP_N (QFP, 52-Leads, Body 14x14mm, Pitch 1mm, IPC Medium Density)
footprint 52QFP_L (QFP, 52-Leads, Body 14x14mm, Pitch 1mm, IPC High Density)
footprint 52QFP_M (QFP, 52-Leads, Body 14x14mm, Pitch 1mm, IPC Low Density)
pins: 1 AVDD (power), 2 TH/LB (in), 3 VOBGP (out), 4 CHPC2, 5 CHPC1, 6 VOCHP (out), 7 VOREG (out), 8 AVSS (power), 9 NC, 10 DOPAP (io), 11 DOPAN (io), 12 DOPAO (io), 13 DCHOP (io), 14 DSRR (io), 15 DSRC (io), 16 DSCC (io), 17 PA7/~{RES} (io), 18 VMAX (power), 19 VLCD (power), 20 COM0 (out), 21 COM1 (out), 22 COM2 (out), 23 COM3 (out), 24 SEG15 (out), 25 SEG14 (out), 26 SEG13 (out), 27 SEG12 (out), 28 SEG11 (out), 29 SEG10 (out), 30 SEG9 (out), 31 SEG8 (out), 32 SEG7 (out), 33 SEG6 (out), 34 SEG5 (out), 35 SEG4 (out), 36 PB7/SEG3/TMR2 (io), 37 PB6/SEG2/TMR1 (io), 38 PB5/SEGl/TMR0 (io), 39 PB4/SEG0/INT (io), 40 PA0/VIB (io), 41 PA1/~{BZ} (io), 42 PA3/OSC4 (io), 43 PA4/OSC3 (io), 44 PA5/OSC2 (io), 45 PA6/OSC1 (io), 46 VDD (power), 47 VSS (power), 48 PA2/BZ/LREF (io), 49 PB0/TK0 (io), 50 PB1/TK1 (io), 51 PB2/TK2 (io), 52 PB3/TK3 (io)

## HT46R232_28SKDIP
designator U?
General Purpose MCU, A/D Type MCU with I2C Interface, 2.2V-5.5V, 400kHz-8MHz, 4Kx16 Program Memory, 192x8 Data Memory, 40 I/O, 2 x 16-bit Timer, 8-bitx4 PWM, 28-pin SKDIP; I/O: 40; DatasheetVersion: rev1.5, Jan-2009; PackageVersion: 25/05/2010; PackageReference: 28SKDIP; PackageDescription: 28-Pin, Skinny Dual In-line Package, 300mil Width, Pitch 2.54 mm; Series: A/D Type MCU with I2C Interface; Operating Voltage: 2.2V-5.5V; Program Memory: 4Kx16; Data Memory: 192x8; ComponentLink1Description: Manufacturer URL; ComponentLink1URL: http://www.holtek.com/; ComponentLink2Description: Datasheet; ComponentLink2URL: http://www.holtek.com.cn/pdf/uc/sim46x232v150.pdf; ComponentLink3Description: Package Specification; ComponentLink3URL: http://www.holtek.com/english/literature/package.pdf
footprint 28SKDIP (DIP, 28-Leads, Row Spacing 7.62mm, Pitch 2.54mm, Body 35.2x7.3mm)
pins: 1 PB5/AN5 (io), 2 PB4/AN4 (io), 3 PA3/PFD (io), 4 PA2 (io), 5 PA1 (io), 6 PA0 (io), 7 PB3/AN3 (io), 8 PB2/AN2 (io), 9 PB1/AN1 (io), 10 PB0/AN0 (io), 11 VSS (power), 12 PC0 (io), 13 PC1 (io), 14 PC2 (io), 15 PC3 (io), 16 PC4 (io), 17 PD0/PWM0 (io), 18 PD1/PWM1/TMR1 (io), 19 ~{RES} (in), 20 VDD (power), 21 OSC1 (in), 22 OSC2 (out), 23 PA7/SCL (io), 24 PA6/SDA (io), 25 PA5/~{INT} (io), 26 PA4 (io), 27 PB7/AN7 (io), 28 PB6/AN6 (io)

## HT46R232_28SOP
designator U?
General Purpose MCU, A/D Type MCU with I2C Interface, 2.2V-5.5V, 400kHz-8MHz, 4Kx16 Program Memory, 192x8 Data Memory, 40 I/O, 2 x 16-bit Timer, 8-bitx4 PWM, 28-pin SOP; I/O: 40; DatasheetVersion: rev1.5, Jan-2009; PackageVersion: 25/05/2010; PackageReference: 28SOP; PackageDescription: 28-Pin Small Outline Package, 300mil Wide, 1.27 mm Pitch; Series: A/D Type MCU with I2C Interface; Operating Voltage: 2.2V-5.5V; Program Memory: 4Kx16; Data Memory: 192x8; Code_JEDEC: MS-013; ComponentLink1Description: Manufacturer URL; ComponentLink1URL: http://www.holtek.com/; ComponentLink2Description: Datasheet; ComponentLink2URL: http://www.holtek.com.cn/pdf/uc/sim46x232v150.pdf; ComponentLink3Description: Package Specification; ComponentLink3URL: http://www.holtek.com/english/literature/package.pdf
footprint 28SOP_N (SOIC, 28-Leads, Body 17.9x7.1mm, Pitch 1.27mm, IPC Medium Density)
footprint 28SOP_L (SOIC, 28-Leads, Body 17.9x7.1mm, Pitch 1.27mm, IPC High Density)
footprint 28SOP_M (SOIC, 28-Leads, Body 17.9x7.1mm, Pitch 1.27mm, IPC Low Density)
pins: 1 PB5/AN5 (io), 2 PB4/AN4 (io), 3 PA3/PFD (io), 4 PA2 (io), 5 PA1 (io), 6 PA0 (io), 7 PB3/AN3 (io), 8 PB2/AN2 (io), 9 PB1/AN1 (io), 10 PB0/AN0 (io), 11 VSS (power), 12 PC0 (io), 13 PC1 (io), 14 PC2 (io), 15 PC3 (io), 16 PC4 (io), 17 PD0/PWM0 (io), 18 PD1/PWM1/TMR1 (io), 19 ~{RES} (in), 20 VDD (power), 21 OSC1 (in), 22 OSC2 (out), 23 PA7/SCL (io), 24 PA6/SDA (io), 25 PA5/~{INT} (io), 26 PA4 (io), 27 PB7/AN7 (io), 28 PB6/AN6 (io)

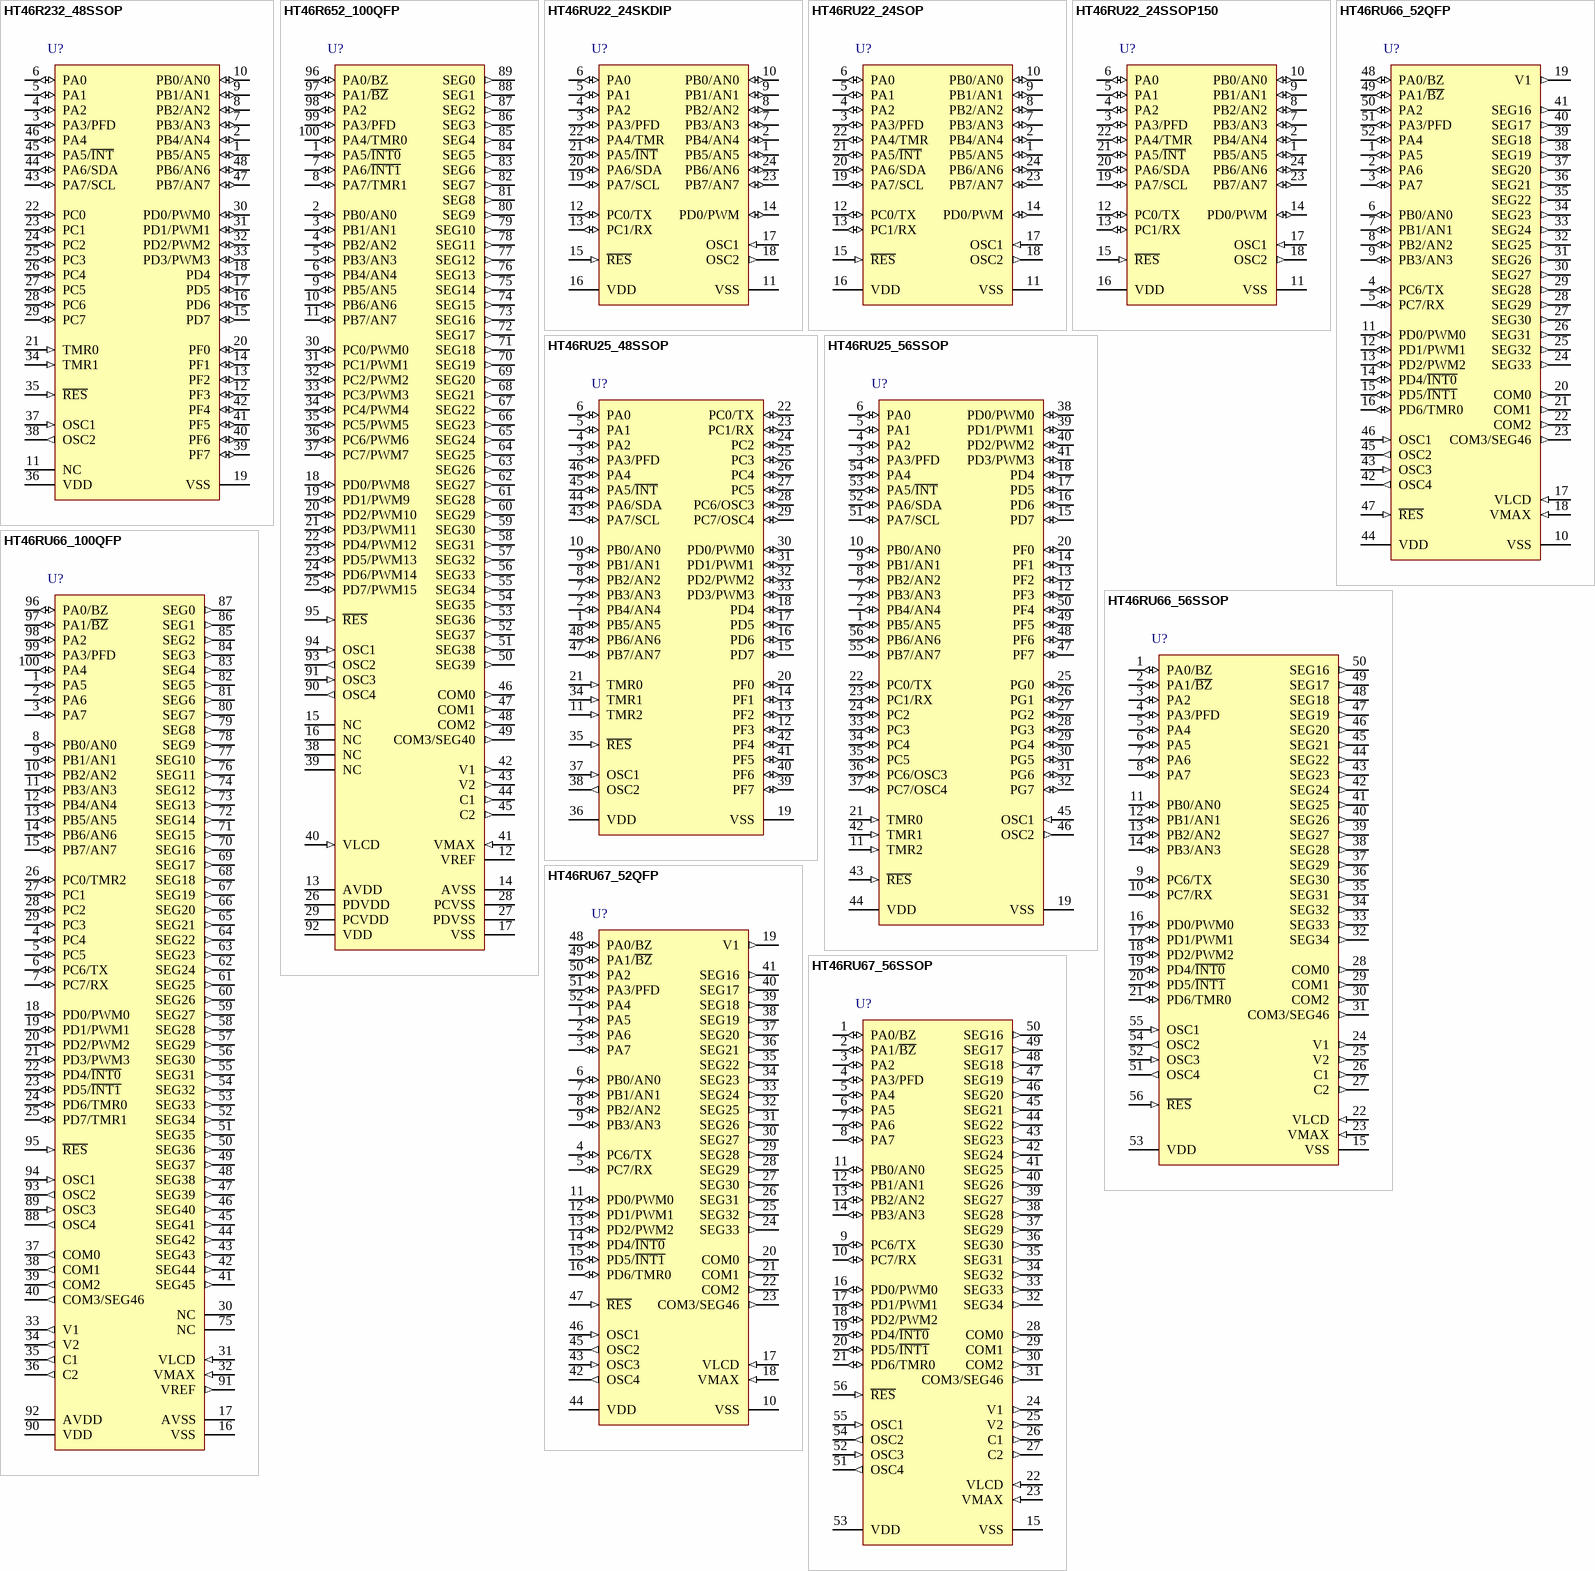
[diagram p6: symbols HT46R232_48SSOP to HT46RU67_56SSOP]

## HT46R232_48SSOP
designator U?
General Purpose MCU, A/D Type MCU with I2C Interface, 2.2V-5.5V, 400kHz-8MHz, 4Kx16 Program Memory, 192x8 Data Memory, 40 I/O, 2 x 16-bit Timer, 8-bitx4 PWM, 48-pin SSOP; I/O: 40; DatasheetVersion: rev1.5, Jan-2009; PackageVersion: 25/05/2010; PackageReference: 48SSOP; PackageDescription: 48-Pin Shrink Small Outline Package, 300mil Width, 0.64 mm Pitch; Series: A/D Type MCU with I2C Interface; Operating Voltage: 2.2V-5.5V; Program Memory: 4Kx16; Data Memory: 192x8; Code_IPC: SOP635P1035-48; ComponentLink1Description: Manufacturer URL; ComponentLink1URL: http://www.holtek.com/; ComponentLink2Description: Datasheet; ComponentLink2URL: http://www.holtek.com.cn/pdf/uc/sim46x232v150.pdf; ComponentLink3Description: Package Specification; ComponentLink3URL: http://www.holtek.com/english/literature/package.pdf
footprint 48SSOP_N (SOP, 48-Leads, Body 15.9x7.5mm, Pitch 0.635mm, IPC Medium Density)
footprint 48SSOP_L (SOP, 48-Leads, Body 15.9x7.5mm, Pitch 0.635mm, IPC High Density)
footprint 48SSOP_M (SOP, 48-Leads, Body 15.9x7.5mm, Pitch 0.635mm, IPC Low Density)
pins: 1 PB5/AN5 (io), 2 PB4/AN4 (io), 3 PA3/PFD (io), 4 PA2 (io), 5 PA1 (io), 6 PA0 (io), 7 PB3/AN3 (io), 8 PB2/AN2 (io), 9 PB1/AN1 (io), 10 PB0/AN0 (io), 11 NC, 12 PF3 (io), 13 PF2 (io), 14 PF1 (io), 15 PD7 (io), 16 PD6 (io), 17 PD5 (io), 18 PD4 (io), 19 VSS (power), 20 PF0 (io), 21 TMR0 (in), 22 PC0 (io), 23 PC1 (io), 24 PC2 (io), 25 PC3 (io), 26 PC4 (io), 27 PC5 (io), 28 PC6 (io), 29 PC7 (io), 30 PD0/PWM0 (io), 31 PD1/PWM1 (io), 32 PD2/PWM2 (io), 33 PD3/PWM3 (io), 34 TMR1 (in), 35 ~{RES} (in), 36 VDD (power), 37 OSC1 (in), 38 OSC2 (out), 39 PF7 (io), 40 PF6 (io), 41 PF5 (io), 42 PF4 (io), 43 PA7/SCL (io), 44 PA6/SDA (io), 45 PA5/~{INT} (io), 46 PA4 (io), 47 PB7/AN7 (io), 48 PB6/AN6 (io)

## HT46R652_100QFP
designator U?
Display MCU, A/D Type MCU with LCD, 2.2V-5.5V, 400kHz-8MHz or 32768Hz, 8Kx16 Program Memory, 384x8 Data Memory, 32 I/O,  x 8-bit Timer, 2 x 16-bit Timer, 12-bitx8 A/D, 8-bitx16 PWM, 100-pin QFP; I/O: 32; DatasheetVersion: rev1.0, Dec-2006; PackageVersion: 25/05/2010; PackageReference: 100QFP; PackageDescription: 100-Pin Quad Flat Pack, 14 x 20 mm Body, 0.65 mm Pitch; Series: A/D Type MCU with LCD; Operating Voltage: 2.2V-5.5V; Program Memory: 8Kx16; Data Memory: 384x8; ComponentLink1Description: Manufacturer URL; ComponentLink1URL: http://www.holtek.com/; ComponentLink2Description: Datasheet; ComponentLink2URL: http://www.holtek.com.cn/pdf/uc/sim46x652v100.pdf; ComponentLink3Description: Package Specification; ComponentLink3URL: http://www.holtek.com/english/literature/package.pdf
footprint 100QFP_N (QFP, 100-Leads, Body 20x14mm, Pitch 0.65mm, IPC Medium Density)
footprint 100QFP_L (QFP, 100-Leads, Body 20x14mm, Pitch 0.65mm, IPC High Density)
footprint 100QFP_M (QFP, 100-Leads, Body 20x14mm, Pitch 0.65mm, IPC Low Density)
pins: 1 PA5/~{INT0} (io), 2 PB0/AN0 (io), 3 PB1/AN1 (io), 4 PB2/AN2 (io), 5 PB3/AN3 (io), 6 PB4/AN4 (io), 7 PA6/~{INT1} (io), 8 PA7/TMR1 (io), 9 PB5/AN5 (io), 10 PB6/AN6 (io), 11 PB7/AN7 (io), 12 VREF (power), 13 AVDD (power), 14 AVSS (power), 15 NC, 16 NC, 17 VSS (power), 18 PD0/PWM8 (io), 19 PD1/PWM9 (io), 20 PD2/PWM10 (io), 21 PD3/PWM11 (io), 22 PD4/PWM12 (io), 23 PD5/PWM13 (io), 24 PD6/PWM14 (io), 25 PD7/PWM15 (io), 26 PDVDD (power), 27 PDVSS (power), 28 PCVSS (power), 29 PCVDD (power), 30 PC0/PWM0 (io), 31 PC1/PWM1 (io), 32 PC2/PWM2 (io), 33 PC3/PWM3 (io), 34 PC4/PWM4 (io), 35 PC5/PWM5 (io), 36 PC6/PWM6 (io), 37 PC7/PWM7 (io), 38 NC, 39 NC, 40 VLCD (in), 41 VMAX (in), 42 V1 (out), 43 V2 (out), 44 C1 (out), 45 C2 (out), 46 COM0 (out), 47 COM1 (out), 48 COM2 (out), 49 COM3/SEG40 (out), 50 SEG39 (out), 51 SEG38 (out), 52 SEG37 (out), 53 SEG36 (out), 54 SEG35 (out), 55 SEG34 (out), 56 SEG33 (out), 57 SEG32 (out), 58 SEG31 (out), 59 SEG30 (out), 60 SEG29 (out), 61 SEG28 (out), 62 SEG27 (out), 63 SEG26 (out), 64 SEG25 (out), 65 SEG24 (out), 66 SEG23 (out), 67 SEG22 (out), 68 SEG21 (out), 69 SEG20 (out), 70 SEG19 (out), 71 SEG18 (out), 72 SEG17 (out), 73 SEG16 (out), 74 SEG15 (out), 75 SEG14 (out), 76 SEG13 (out), 77 SEG12 (out), 78 SEG11 (out), 79 SEG10 (out), 80 SEG9 (out), 81 SEG8 (out), 82 SEG7 (out), 83 SEG6 (out), 84 SEG5 (out), 85 SEG4 (out), 86 SEG3 (out), 87 SEG2 (out), 88 SEG1 (out), 89 SEG0 (out), 90 OSC4 (out), 91 OSC3 (in), 92 VDD (power), 93 OSC2 (out), 94 OSC1 (in), 95 ~{RES} (in), 96 PA0/BZ (io), 97 PA1/~{BZ} (io), 98 PA2 (io), 99 PA3/PFD (io), 100 PA4/TMR0 (io)

## HT46RU22_24SKDIP
designator U?
UART/USB Interface MCU, A/D Type MCU with UART Interface, 2.2V-5.5V, 400kHz-8MHz, 2Kx14 Program Memory, 64x8 Data Memory, 19 I/O, 1 x 8-bit Timer, 9-bitx8 A/D, 8-bitx1 PWM, 24-pin SKDIP; I/O: 19; DatasheetVersion: rev1.21, Dec-2008; PackageVersion: 25/05/2010; PackageReference: 24SKDIP; PackageDescription: 24-Pin, Skinny Dual In-line Package, 300mil Width, Pitch 2.54 mm, Full Lead (MS-001D); Series: A/D Type MCU with UART Interface; Operating Voltage: 2.2V-5.5V; Program Memory: 2Kx14; Data Memory: 64x8; Code_JEDEC: MS-001; ComponentLink1Description: Manufacturer URL; ComponentLink1URL: http://www.holtek.com/; ComponentLink2Description: Datasheet; ComponentLink2URL: http://www.holtek.com.cn/pdf/uc/sim46xu22v121.pdf; ComponentLink3Description: Package Specification; ComponentLink3URL: http://www.holtek.com/english/literature/package.pdf
footprint 24SKDIP (DIP, 24-Leads, Row Spacing 7.62mm, Pitch 2.54mm, Body 31.9x6.6mm)
pins: 1 PB5/AN5 (io), 2 PB4/AN4 (io), 3 PA3/PFD (io), 4 PA2 (io), 5 PA1 (io), 6 PA0 (io), 7 PB3/AN3 (io), 8 PB2/AN2 (io), 9 PB1/AN1 (io), 10 PB0/AN0 (io), 11 VSS (power), 12 PC0/TX (io), 13 PC1/RX (io), 14 PD0/PWM (io), 15 ~{RES} (in), 16 VDD (power), 17 OSC1 (in), 18 OSC2 (out), 19 PA7/SCL (io), 20 PA6/SDA (io), 21 PA5/~{INT} (io), 22 PA4/TMR (io), 23 PB7/AN7 (io), 24 PB6/AN6 (io)

## HT46RU22_24SOP
designator U?
UART/USB Interface MCU, A/D Type MCU with UART Interface, 2.2V-5.5V, 400kHz-8MHz, 2Kx14 Program Memory, 64x8 Data Memory, 19 I/O, 1 x 8-bit Timer, 9-bitx8 A/D, 8-bitx1 PWM, 24-pin SOP; I/O: 19; DatasheetVersion: rev1.21, Dec-2008; PackageVersion: 25/05/2010; PackageReference: 24SOP; PackageDescription: 24-Pin Small Outline Package, 300mil Wide, 1.27 mm Pitch; Series: A/D Type MCU with UART Interface; Operating Voltage: 2.2V-5.5V; Program Memory: 2Kx14; Data Memory: 64x8; Code_JEDEC: MS-013; ComponentLink1Description: Manufacturer URL; ComponentLink1URL: http://www.holtek.com/; ComponentLink2Description: Datasheet; ComponentLink2URL: http://www.holtek.com.cn/pdf/uc/sim46xu22v121.pdf; ComponentLink3Description: Package Specification; ComponentLink3URL: http://www.holtek.com/english/literature/package.pdf
footprint 24SOP_N (SOIC, 24-Leads, Body 15.4x7.1mm, Pitch 1.27mm, IPC Medium Density)
footprint 24SOP_L (SOIC, 24-Leads, Body 15.4x7.1mm, Pitch 1.27mm, IPC High Density)
footprint 24SOP_M (SOIC, 24-Leads, Body 15.4x7.1mm, Pitch 1.27mm, IPC Low Density)
pins: 1 PB5/AN5 (io), 2 PB4/AN4 (io), 3 PA3/PFD (io), 4 PA2 (io), 5 PA1 (io), 6 PA0 (io), 7 PB3/AN3 (io), 8 PB2/AN2 (io), 9 PB1/AN1 (io), 10 PB0/AN0 (io), 11 VSS (power), 12 PC0/TX (io), 13 PC1/RX (io), 14 PD0/PWM (io), 15 ~{RES} (in), 16 VDD (power), 17 OSC1 (in), 18 OSC2 (out), 19 PA7/SCL (io), 20 PA6/SDA (io), 21 PA5/~{INT} (io), 22 PA4/TMR (io), 23 PB7/AN7 (io), 24 PB6/AN6 (io)

## HT46RU22_24SSOP150
designator U?
UART/USB Interface MCU, A/D Type MCU with UART Interface, 2.2V-5.5V, 400kHz-8MHz, 2Kx14 Program Memory, 64x8 Data Memory, 19 I/O, 1 x 8-bit Timer, 9-bitx8 A/D, 8-bitx1 PWM, 24-pin SSOP; I/O: 19; DatasheetVersion: rev1.21, Dec-2008; PackageVersion: 25/05/2010; PackageReference: 24SSOP150; PackageDescription: 24-Pin Shrink Small Outline Package, 150mil Width, 0.64 mm Pitch; Series: A/D Type MCU with UART Interface; Operating Voltage: 2.2V-5.5V; Program Memory: 2Kx14; Data Memory: 64x8; ComponentLink1Description: Manufacturer URL; ComponentLink1URL: http://www.holtek.com/; ComponentLink2Description: Datasheet; ComponentLink2URL: http://www.holtek.com.cn/pdf/uc/sim46xu22v121.pdf; ComponentLink3Description: Package Specification; ComponentLink3URL: http://www.holtek.com/english/literature/package.pdf
footprint 24SSOP150_N (SOP, 24-Leads, Body 8.7x3.9mm, Pitch 0.635mm, IPC Medium Density)
footprint 24SSOP150_L (SOP, 24-Leads, Body 8.7x3.9mm, Pitch 0.635mm, IPC High Density)
footprint 24SSOP150_M (SOP, 24-Leads, Body 8.7x3.9mm, Pitch 0.635mm, IPC Low Density)
pins: 1 PB5/AN5 (io), 2 PB4/AN4 (io), 3 PA3/PFD (io), 4 PA2 (io), 5 PA1 (io), 6 PA0 (io), 7 PB3/AN3 (io), 8 PB2/AN2 (io), 9 PB1/AN1 (io), 10 PB0/AN0 (io), 11 VSS (power), 12 PC0/TX (io), 13 PC1/RX (io), 14 PD0/PWM (io), 15 ~{RES} (in), 16 VDD (power), 17 OSC1 (in), 18 OSC2 (out), 19 PA7/SCL (io), 20 PA6/SDA (io), 21 PA5/~{INT} (io), 22 PA4/TMR (io), 23 PB7/AN7 (io), 24 PB6/AN6 (io)

## HT46RU25_48SSOP
designator U?
UART/USB Interface MCU, A/D Type MCU with UART Interface, 2.2V-5.5V, 400kHz-8MHz, 16Kx16 Program Memory, 576x8 Data Memory, 48 I/O, 1 x 8-bit Timer, 2 x 16-bit Timer, 12-bitx8 A/D, 8-bitx4 PWM, 48-pin SSOP; I/O: 48; DatasheetVersion: rev1.3, Mar-2007; PackageVersion: 25/05/2010; PackageReference: 48SSOP; PackageDescription: 48-Pin Shrink Small Outline Package, 300mil Width, 0.64 mm Pitch; Series: A/D Type MCU with UART Interface; Operating Voltage: 2.2V-5.5V; Program Memory: 16Kx16; Data Memory: 576x8; Code_IPC: SOP635P1035-48; ComponentLink1Description: Manufacturer URL; ComponentLink1URL: http://www.holtek.com/; ComponentLink2Description: Datasheet; ComponentLink2URL: http://www.holtek.com.cn/pdf/uc/sim46xu25v130.pdf; ComponentLink3Description: Package Specification; ComponentLink3URL: http://www.holtek.com/english/literature/package.pdf
footprint 48SSOP_N (SOP, 48-Leads, Body 15.9x7.5mm, Pitch 0.635mm, IPC Medium Density)
footprint 48SSOP_L (SOP, 48-Leads, Body 15.9x7.5mm, Pitch 0.635mm, IPC High Density)
footprint 48SSOP_M (SOP, 48-Leads, Body 15.9x7.5mm, Pitch 0.635mm, IPC Low Density)
pins: 1 PB5/AN5 (io), 2 PB4/AN4 (io), 3 PA3/PFD (io), 4 PA2 (io), 5 PA1 (io), 6 PA0 (io), 7 PB3/AN3 (io), 8 PB2/AN2 (io), 9 PB1/AN1 (io), 10 PB0/AN0 (io), 11 TMR2 (in), 12 PF3 (io), 13 PF2 (io), 14 PF1 (io), 15 PD7 (io), 16 PD6 (io), 17 PD5 (io), 18 PD4 (io), 19 VSS (power), 20 PF0 (io), 21 TMR0 (in), 22 PC0/TX (io), 23 PC1/RX (io), 24 PC2 (io), 25 PC3 (io), 26 PC4 (io), 27 PC5 (io), 28 PC6/OSC3 (io), 29 PC7/OSC4 (io), 30 PD0/PWM0 (io), 31 PD1/PWM1 (io), 32 PD2/PWM2 (io), 33 PD3/PWM3 (io), 34 TMR1 (in), 35 ~{RES} (in), 36 VDD (power), 37 OSC1 (in), 38 OSC2 (out), 39 PF7 (io), 40 PF6 (io), 41 PF5 (io), 42 PF4 (io), 43 PA7/SCL (io), 44 PA6/SDA (io), 45 PA5/~{INT} (io), 46 PA4 (io), 47 PB7/AN7 (io), 48 PB6/AN6 (io)

## HT46RU25_56SSOP
designator U?
UART/USB Interface MCU, A/D Type MCU with UART Interface, 2.2V-5.5V, 400kHz-8MHz, 16Kx16 Program Memory, 576x8 Data Memory, 48 I/O, 1 x 8-bit Timer, 2 x 16-bit Timer, 12-bitx8 A/D, 8-bitx4 PWM, 56-pin SSOP; I/O: 48; DatasheetVersion: rev1.3, Mar-2007; PackageVersion: 25/05/2010; PackageReference: 56SSOP; PackageDescription: 56-Pin Shrink Small Outline Package, 300mil Width, 0.64 mm Pitch; Series: A/D Type MCU with UART Interface; Operating Voltage: 2.2V-5.5V; Program Memory: 16Kx16; Data Memory: 576x8; Code_IPC: SOP635P1035-56; ComponentLink1Description: Manufacturer URL; ComponentLink1URL: http://www.holtek.com/; ComponentLink2Description: Datasheet; ComponentLink2URL: http://www.holtek.com.cn/pdf/uc/sim46xu25v130.pdf; ComponentLink3Description: Package Specification; ComponentLink3URL: http://www.holtek.com/english/literature/package.pdf
footprint 56SSOP_N (SOP, 56-Leads, Body 18.4x7.5mm, Pitch 0.635mm, IPC Medium Density)
footprint 56SSOP_L (SOP, 56-Leads, Body 18.4x7.5mm, Pitch 0.635mm, IPC High Density)
footprint 56SSOP_M (SOP, 56-Leads, Body 18.4x7.5mm, Pitch 0.635mm, IPC Low Density)
pins: 1 PB5/AN5 (io), 2 PB4/AN4 (io), 3 PA3/PFD (io), 4 PA2 (io), 5 PA1 (io), 6 PA0 (io), 7 PB3/AN3 (io), 8 PB2/AN2 (io), 9 PB1/AN1 (io), 10 PB0/AN0 (io), 11 TMR2 (in), 12 PF3 (io), 13 PF2 (io), 14 PF1 (io), 15 PD7 (io), 16 PD6 (io), 17 PD5 (io), 18 PD4 (io), 19 VSS (power), 20 PF0 (io), 21 TMR0 (in), 22 PC0/TX (io), 23 PC1/RX (io), 24 PC2 (io), 25 PG0 (io), 26 PG1 (io), 27 PG2 (io), 28 PG3 (io), 29 PG4 (io), 30 PG5 (io), 31 PG6 (io), 32 PG7 (io), 33 PC3 (io), 34 PC4 (io), 35 PC5 (io), 36 PC6/OSC3 (io), 37 PC7/OSC4 (io), 38 PD0/PWM0 (io), 39 PD1/PWM1 (io), 40 PD2/PWM2 (io), 41 PD3/PWM3 (io), 42 TMR1 (in), 43 ~{RES} (in), 44 VDD (power), 45 OSC1 (in), 46 OSC2 (out), 47 PF7 (io), 48 PF6 (io), 49 PF5 (io), 50 PF4 (io), 51 PA7/SCL (io), 52 PA6/SDA (io), 53 PA5/~{INT} (io), 54 PA4 (io), 55 PB7/AN7 (io), 56 PB6/AN6 (io)

## HT46RU66_52QFP
designator U?
Display MCU, A/D Type MCU with LCD, 2.2V-5.5V, 400kHz-8MHz or 32768Hz, 16Kx16 Program Memory, 576x8 Data Memory, 32 I/O, 1 x 8-bit Timer, 2 x 16-bit Timer, 12-bitx8 A/D, 8-bitx4 PWM, 52-pin QFP; I/O: 32; DatasheetVersion: rev1.2, Oct-2007; PackageVersion: 25/05/2010; PackageReference: 52QFP; PackageDescription: 52-Pin Quad Flat Pack, 14 x 14 mm Body, 1 mm Pitch; Series: A/D Type MCU with LCD; Operating Voltage: 2.2V-5.5V; Program Memory: 16Kx16; Data Memory: 576x8; ComponentLink1Description: Manufacturer URL; ComponentLink1URL: http://www.holtek.com/; ComponentLink2Description: Datasheet; ComponentLink2URL: http://www.holtek.com.cn/pdf/uc/sim46xu66v120.pdf; ComponentLink3Description: Package Specification; ComponentLink3URL: http://www.holtek.com/english/literature/package.pdf
footprint 52QFP_N (QFP, 52-Leads, Body 14x14mm, Pitch 1mm, IPC Medium Density)
footprint 52QFP_L (QFP, 52-Leads, Body 14x14mm, Pitch 1mm, IPC High Density)
footprint 52QFP_M (QFP, 52-Leads, Body 14x14mm, Pitch 1mm, IPC Low Density)
pins: 1 PA5 (io), 2 PA6 (io), 3 PA7 (io), 4 PC6/TX (io), 5 PC7/RX (io), 6 PB0/AN0 (io), 7 PB1/AN1 (io), 8 PB2/AN2 (io), 9 PB3/AN3 (io), 10 VSS (power), 11 PD0/PWM0 (io), 12 PD1/PWM1 (io), 13 PD2/PWM2 (io), 14 PD4/~{INT0} (io), 15 PD5/~{INT1} (io), 16 PD6/TMR0 (io), 17 VLCD (in), 18 VMAX (in), 19 V1 (out), 20 COM0 (out), 21 COM1 (out), 22 COM2 (out), 23 COM3/SEG46 (out), 24 SEG33 (out), 25 SEG32 (out), 26 SEG31 (out), 27 SEG30 (out), 28 SEG29 (out), 29 SEG28 (out), 30 SEG27 (out), 31 SEG26 (out), 32 SEG25 (out), 33 SEG24 (out), 34 SEG23 (out), 35 SEG22 (out), 36 SEG21 (out), 37 SEG20 (out), 38 SEG19 (out), 39 SEG18 (out), 40 SEG17 (out), 41 SEG16 (out), 42 OSC4 (out), 43 OSC3 (in), 44 VDD (power), 45 OSC2 (out), 46 OSC1 (in), 47 ~{RES} (in), 48 PA0/BZ (io), 49 PA1/~{BZ} (io), 50 PA2 (io), 51 PA3/PFD (io), 52 PA4 (io)

## HT46RU66_56SSOP
designator U?
Display MCU, A/D Type MCU with LCD, 2.2V-5.5V, 400kHz-8MHz or 32768Hz, 16Kx16 Program Memory, 576x8 Data Memory, 32 I/O, 1 x 8-bit Timer, 2 x 16-bit Timer, 12-bitx8 A/D, 8-bitx4 PWM, 56-pin SSOP; I/O: 32; DatasheetVersion: rev1.2, Oct-2007; PackageVersion: 25/05/2010; PackageReference: 56SSOP; PackageDescription: 56-Pin Shrink Small Outline Package, 300mil Width, 0.64 mm Pitch; Series: A/D Type MCU with LCD; Operating Voltage: 2.2V-5.5V; Program Memory: 16Kx16; Data Memory: 576x8; Code_IPC: SOP635P1035-56; ComponentLink1Description: Manufacturer URL; ComponentLink1URL: http://www.holtek.com/; ComponentLink2Description: Datasheet; ComponentLink2URL: http://www.holtek.com.cn/pdf/uc/sim46xu66v120.pdf; ComponentLink3Description: Package Specification; ComponentLink3URL: http://www.holtek.com/english/literature/package.pdf
footprint 56SSOP_N (SOP, 56-Leads, Body 18.4x7.5mm, Pitch 0.635mm, IPC Medium Density)
footprint 56SSOP_L (SOP, 56-Leads, Body 18.4x7.5mm, Pitch 0.635mm, IPC High Density)
footprint 56SSOP_M (SOP, 56-Leads, Body 18.4x7.5mm, Pitch 0.635mm, IPC Low Density)
pins: 1 PA0/BZ (io), 2 PA1/~{BZ} (io), 3 PA2 (io), 4 PA3/PFD (io), 5 PA4 (io), 6 PA5 (io), 7 PA6 (io), 8 PA7 (io), 9 PC6/TX (io), 10 PC7/RX (io), 11 PB0/AN0 (io), 12 PB1/AN1 (io), 13 PB2/AN2 (io), 14 PB3/AN3 (io), 15 VSS (power), 16 PD0/PWM0 (io), 17 PD1/PWM1 (io), 18 PD2/PWM2 (io), 19 PD4/~{INT0} (io), 20 PD5/~{INT1} (io), 21 PD6/TMR0 (io), 22 VLCD (in), 23 VMAX (in), 24 V1 (out), 25 V2 (out), 26 C1 (out), 27 C2 (out), 28 COM0 (out), 29 COM1 (out), 30 COM2 (out), 31 COM3/SEG46 (out), 32 SEG34 (out), 33 SEG33 (out), 34 SEG32 (out), 35 SEG31 (out), 36 SEG30 (out), 37 SEG29 (out), 38 SEG28 (out), 39 SEG27 (out), 40 SEG26 (out), 41 SEG25 (out), 42 SEG24 (out), 43 SEG23 (out), 44 SEG22 (out), 45 SEG21 (out), 46 SEG20 (out), 47 SEG19 (out), 48 SEG18 (out), 49 SEG17 (out), 50 SEG16 (out), 51 OSC4 (out), 52 OSC3 (in), 53 VDD (power), 54 OSC2 (out), 55 OSC1 (in), 56 ~{RES} (in)

## HT46RU66_100QFP
designator U?
Display MCU, A/D Type MCU with LCD, 2.2V-5.5V, 400kHz-8MHz or 32768Hz, 16Kx16 Program Memory, 576x8 Data Memory, 32 I/O, 1 x 8-bit Timer, 2 x 16-bit Timer, 12-bitx8 A/D, 8-bitx4 PWM, 100-pin QFP; I/O: 32; DatasheetVersion: rev1.2, Oct-2007; PackageVersion: 25/05/2010; PackageReference: 100QFP; PackageDescription: 100-Pin Quad Flat Pack, 14 x 20 mm Body, 0.65 mm Pitch; Series: A/D Type MCU with LCD; Operating Voltage: 2.2V-5.5V; Program Memory: 16Kx16; Data Memory: 576x8; ComponentLink1Description: Manufacturer URL; ComponentLink1URL: http://www.holtek.com/; ComponentLink2Description: Datasheet; ComponentLink2URL: http://www.holtek.com.cn/pdf/uc/sim46xu66v120.pdf; ComponentLink3Description: Package Specification; ComponentLink3URL: http://www.holtek.com/english/literature/package.pdf
footprint 100QFP_N (QFP, 100-Leads, Body 20x14mm, Pitch 0.65mm, IPC Medium Density)
footprint 100QFP_L (QFP, 100-Leads, Body 20x14mm, Pitch 0.65mm, IPC High Density)
footprint 100QFP_M (QFP, 100-Leads, Body 20x14mm, Pitch 0.65mm, IPC Low Density)
pins: 1 PA5 (io), 2 PA6 (io), 3 PA7 (io), 4 PC4 (io), 5 PC5 (io), 6 PC6/TX (io), 7 PC7/RX (io), 8 PB0/AN0 (io), 9 PB1/AN1 (io), 10 PB2/AN2 (io), 11 PB3/AN3 (io), 12 PB4/AN4 (io), 13 PB5/AN5 (io), 14 PB6/AN6 (io), 15 PB7/AN7 (io), 16 VSS (power), 17 AVSS (power), 18 PD0/PWM0 (io), 19 PD1/PWM1 (io), 20 PD2/PWM2 (io), 21 PD3/PWM3 (io), 22 PD4/~{INT0} (io), 23 PD5/~{INT1} (io), 24 PD6/TMR0 (io), 25 PD7/TMR1 (io), 26 PC0/TMR2 (io), 27 PC1 (io), 28 PC2 (io), 29 PC3 (io), 30 NC, 31 VLCD (in), 32 VMAX (in), 33 V1 (out), 34 V2 (out), 35 C1 (out), 36 C2 (out), 37 COM0 (out), 38 COM1 (out), 39 COM2 (out), 40 COM3/SEG46 (out), 41 SEG45 (out), 42 SEG44 (out), 43 SEG43 (out), 44 SEG42 (out), 45 SEG41 (out), 46 SEG40 (out), 47 SEG39 (out), 48 SEG38 (out), 49 SEG37 (out), 50 SEG36 (out), 51 SEG35 (out), 52 SEG34 (out), 53 SEG33 (out), 54 SEG32 (out), 55 SEG31 (out), 56 SEG30 (out), 57 SEG29 (out), 58 SEG28 (out), 59 SEG27 (out), 60 SEG26 (out), 61 SEG25 (out), 62 SEG24 (out), 63 SEG23 (out), 64 SEG22 (out), 65 SEG21 (out), 66 SEG20 (out), 67 SEG19 (out), 68 SEG18 (out), 69 SEG17 (out), 70 SEG16 (out), 71 SEG15 (out), 72 SEG14 (out), 73 SEG13 (out), 74 SEG12 (out), 75 NC, 76 SEG11 (out), 77 SEG10 (out), 78 SEG9 (out), 79 SEG8 (out), 80 SEG7 (out), 81 SEG6 (out), 82 SEG5 (out), 83 SEG4 (out), 84 SEG3 (out), 85 SEG2 (out), 86 SEG1 (out), 87 SEG0 (out), 88 OSC4 (out), 89 OSC3 (in), 90 VDD (power), 91 VREF (out), 92 AVDD (power), 93 OSC2 (out), 94 OSC1 (in), 95 ~{RES} (in), 96 PA0/BZ (io), 97 PA1/~{BZ} (io), 98 PA2 (io), 99 PA3/PFD (io), 100 PA4 (io)